# EAGLE library part AK500/7 (library Connector)
CONNECTOR
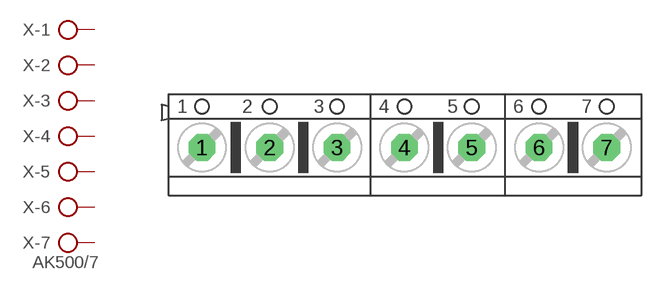
[diagram p7: symbol with the pads of AK500/7; footprint AK500/7]

Designator prefix X; gates -1=KL -2=KL -3=KL -4=KL -5=KL -6=KL -7=KLV

## AK500/7 (OC_FARNELL: unknown; OC_NEWARK: unknown)  [AK500/7]
1  -1:KL  pas
2  -2:KL  pas
3  -3:KL  pas
4  -4:KL  pas
5  -5:KL  pas
6  -6:KL  pas
7  -7:KL  pas

## Footprint AK500/7 (pad centres in mm)
CONNECTOR
drill 1.321 octagon: 1 -15.037,0; 2 -10.008,0; 3 -5.004,0; 4 0,0; 5 5.004,0; 6 10.008,0; 7 15.037,0